# Altium footprint library SparkFun-Connectors.PCBLIB: 344 footprints (part 22 of 22)
Each footprint in its own frame and in the unit in brackets; x right, y up, seen from the top. Pads: shape width x height; smd on the part's side, far side on the other; paste and mask are expansions set on the pad; w line width, h text height; cw(c..) or ccw(c..) is an arc to the next point about the centre after c.
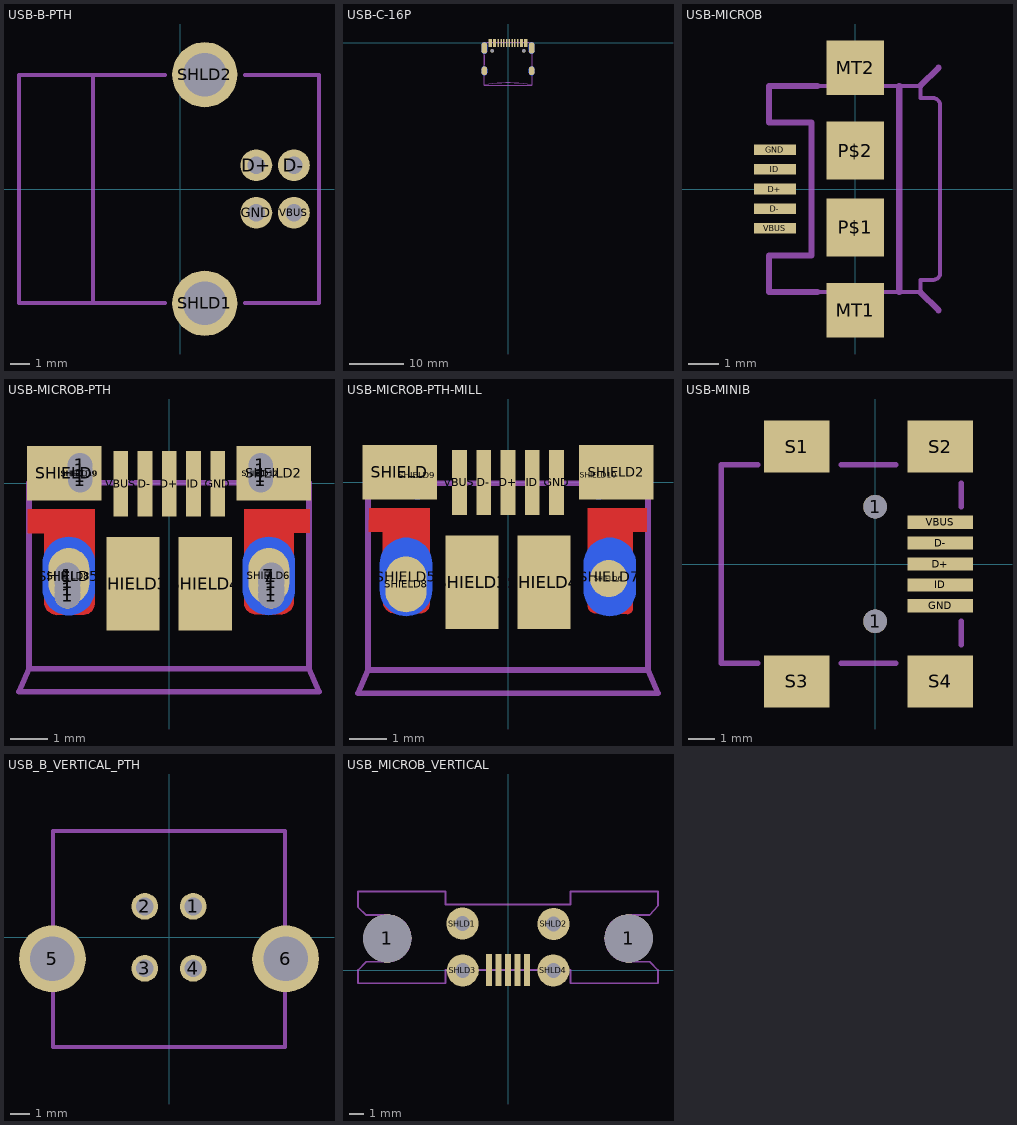
[diagram p21: the footprints below, top view; thin cyan lines are the x and y axes]

## USB-B-PTH [mil]
pads (6):
  round 66 / inner round 60 / far side round 66 hole 36: D+(157.48,49.21) D-(235.48,49.21) GND(157.48,-49.21) VBUS(235.48,-49.21)
  round 135 / inner round 60 / far side round 135 hole 90: SHLD1(50.48,-237) SHLD2(50.48,237)
Mechanical 8:
  lines w8: -334.65,-236.22 -181.1,-236.22 -181.1,236.22 -334.65,236.22 -334.65,-236.22
Mechanical 22:
  lines w8: -181.1,-236.22 -31.5,-236.22 ; -181.1,236.22 -31.5,236.22 ; 133.86,-236.22 287.4,-236.22 287.4,236.22 133.86,236.22

## USB-C-16P [mm]
pads (22):
  round 0.65 hole 0.65 unplated: 1(-2.89,-1.445) 1(2.89,-1.445)
  rect 0.3x1.45 smd: A5(-1.25,0) A6(-0.25,0) A7(0.25,0) A8(1.25,0) B5(1.75,0) B6(0.75,0) B7(-0.75,0) B8(-1.75,0)
  rect 0.6x1.45 smd: GND(-3.225,0) GND2(3.225,0)
  rrect100% 1x2.1 smd paste+0 mask+0: SHLD1(-4.32,-0.915) SHLD2(4.32,-0.915)
  rrect100% 1x2.1 smd far side paste+0 mask+0: SHLD3(-4.32,-0.915) SHLD4(4.32,-0.915)
  rrect100% 1x1.6 smd paste+0 mask+0: SHLD5(-4.32,-5.095) SHLD8(4.32,-5.095)
  rrect100% 1x1.6 smd far side paste+0 mask+0: SHLD6(-4.32,-5.095) SHLD7(4.32,-5.095)
  rect 0.55x1.45 smd: VBUS1(-2.45,0) VBUS2(2.45,0)
Mid-Layer 1:
  pour cut-out: 0,0 0.254,0 0.254,0.254 0,0.254
  pour cut-out: 0,0 0.254,0 0.254,0.254 0,0.254
  pour cut-out: 0,0 0.254,0 0.254,0.254 0,0.254
  pour cut-out: 0,0 0.254,0 0.254,0.254 0,0.254
Mid-Layer 14:
  pour cut-out: 0,0 0.254,0 0.254,0.254 0,0.254
  pour cut-out: 0,0 0.254,0 0.254,0.254 0,0.254
  pour cut-out: 0,0 0.254,0 0.254,0.254 0,0.254
  pour cut-out: 0,0 0.254,0 0.254,0.254 0,0.254
Top Paste:
  region: -4.92,-1.52 -4.92,-0.32 -4.916,-0.205 -4.819,0.004 -4.651,0.16 -4.435,0.239 -4.32,0.235 -4.205,0.239 -3.989,0.16 -3.821,0.004 -3.725,-0.205 -3.72,-0.32 -3.72,-1.52 -3.726,-1.634 -3.823,-1.84 -3.992,-1.993 -4.206,-2.07 -4.32,-2.065 -4.434,-2.07 -4.649,-1.993 -4.817,-1.84 -4.915,-1.634
  region: 3.72,-1.52 3.72,-0.32 3.725,-0.205 3.821,0.004 3.989,0.16 4.205,0.239 4.32,0.235 4.435,0.239 4.651,0.16 4.819,0.004 4.916,-0.205 4.92,-0.32 4.92,-1.52 4.915,-1.634 4.817,-1.84 4.649,-1.993 4.434,-2.07 4.32,-2.065 4.206,-2.07 3.992,-1.993 3.823,-1.84 3.726,-1.634
  region: 3.72,-5.4 3.72,-4.8 3.72,-4.68 3.81,-4.458 3.979,-4.288 4.2,-4.196 4.32,-4.195 4.44,-4.196 4.661,-4.288 4.83,-4.458 4.92,-4.68 4.92,-4.8 4.92,-5.4 4.919,-5.519 4.828,-5.738 4.659,-5.905 4.439,-5.995 4.32,-5.995 4.201,-5.995 3.981,-5.905 3.812,-5.738 3.721,-5.519
  region: -4.92,-5.4 -4.92,-4.8 -4.92,-4.68 -4.83,-4.458 -4.661,-4.288 -4.44,-4.196 -4.32,-4.195 -4.2,-4.196 -3.979,-4.288 -3.81,-4.458 -3.72,-4.68 -3.72,-4.8 -3.72,-5.4 -3.721,-5.519 -3.812,-5.738 -3.981,-5.905 -4.201,-5.995 -4.32,-5.995 -4.439,-5.995 -4.659,-5.905 -4.828,-5.738 -4.919,-5.519
Top Solder:
  region: -4.92,-1.52 -4.92,-0.32 -4.916,-0.205 -4.819,0.004 -4.651,0.16 -4.435,0.239 -4.32,0.235 -4.205,0.239 -3.989,0.16 -3.821,0.004 -3.725,-0.205 -3.72,-0.32 -3.72,-1.52 -3.726,-1.634 -3.823,-1.84 -3.992,-1.993 -4.206,-2.07 -4.32,-2.065 -4.434,-2.07 -4.649,-1.993 -4.817,-1.84 -4.915,-1.634
  region: 3.72,-1.52 3.72,-0.32 3.725,-0.205 3.821,0.004 3.989,0.16 4.205,0.239 4.32,0.235 4.435,0.239 4.651,0.16 4.819,0.004 4.916,-0.205 4.92,-0.32 4.92,-1.52 4.915,-1.634 4.817,-1.84 4.649,-1.993 4.434,-2.07 4.32,-2.065 4.206,-2.07 3.992,-1.993 3.823,-1.84 3.726,-1.634
  region: 3.72,-5.4 3.72,-4.8 3.72,-4.68 3.81,-4.458 3.979,-4.288 4.2,-4.196 4.32,-4.195 4.44,-4.196 4.661,-4.288 4.83,-4.458 4.92,-4.68 4.92,-4.8 4.92,-5.4 4.919,-5.519 4.828,-5.738 4.659,-5.905 4.439,-5.995 4.32,-5.995 4.201,-5.995 3.981,-5.905 3.812,-5.738 3.721,-5.519
  region: -4.92,-5.4 -4.92,-4.8 -4.92,-4.68 -4.83,-4.458 -4.661,-4.288 -4.44,-4.196 -4.32,-4.195 -4.2,-4.196 -3.979,-4.288 -3.81,-4.458 -3.72,-4.68 -3.72,-4.8 -3.72,-5.4 -3.721,-5.519 -3.812,-5.738 -3.981,-5.905 -4.201,-5.995 -4.32,-5.995 -4.439,-5.995 -4.659,-5.905 -4.828,-5.738 -4.919,-5.519
Mechanical 8:
  lines w0.01: -4.82,-5.395 -3.82,-5.395 ; -4.82,-5.095 -3.82,-5.095 ; -4.82,-4.795 -3.82,-4.795 ; -4.82,-1.515 -3.82,-1.515 ; -4.82,-0.915 -3.82,-0.915 ; -4.82,-0.315 -3.82,-0.315 ; -4.32,-5.895 -4.32,-4.295 ; -4.32,-1.965 -4.32,0.125 -4.32,0.135 ; 3.82,-5.395 4.82,-5.395 ; 3.82,-5.095 4.82,-5.095 ; 3.82,-4.795 4.82,-4.795 ; 3.82,-1.515 4.82,-1.515 ; 3.82,-0.915 4.82,-0.915 ; 3.82,-0.315 4.82,-0.315 ; 4.32,-5.895 4.32,-4.295 ; 4.32,-1.965 4.32,0.125 4.32,0.135
  lines w0.152: -4.32,-7.7 cw(c0,-30.692) 4.32,-7.7 ; -4.32,-7.695 4.32,-7.695 4.32,0.125 -4.32,0.125 -4.32,-7.695
Mechanical 9:
  lines w0.01: -4.62,-5.095 -4.02,-5.095 ; -4.62,-0.915 -4.02,-0.915 ; -4.32,-5.695 -4.32,-4.495 ; -4.32,-1.765 -4.32,-0.065 ; 4.02,-5.095 4.62,-5.095 ; 4.02,-0.915 4.62,-0.915 ; 4.32,-5.695 4.32,-4.495 ; 4.32,-1.765 4.32,-0.065
Mechanical 22:
  lines w0.152: -4.32,-4 -4.32,-2.2 ; 4.32,-4 4.32,-2.2
Mechanical 32:
  lines w0.01: -4.62,-5.4 -4.62,-4.78 cw(c-4.32,-4.78) -4.02,-4.78 -4.02,-5.4 cw(c-4.32,-5.4) -4.62,-5.4 ; -4.62,-1.465 -4.62,-0.365 cw(c-4.32,-0.365) -4.02,-0.365 -4.02,-1.465 cw(c-4.32,-1.465) -4.62,-1.465 ; 4.02,-5.4 4.02,-4.78 cw(c4.32,-4.78) 4.62,-4.78 4.62,-5.4 cw(c4.32,-5.4) 4.02,-5.4 ; 4.02,-1.465 4.02,-0.365 cw(c4.32,-0.365) 4.62,-0.365 4.62,-1.465 cw(c4.32,-1.465) 4.02,-1.465

## USB-MICROB [mm]
pads (9):
  rect 1.4x0.35 smd: D+(-2.65,0) D-(-2.65,-0.65) GND(-2.65,1.3) ID(-2.65,0.65) VBUS(-2.65,-1.3)
  rect 1.9x1.8 smd: MT1(0,-4) MT2(0,4)
  rect 1.9x1.9 smd: P$1(0,-1.27) P$2(0,1.27)
Mechanical 8:
  lines w0.127: 1.45,-3.4 2.15,-3.4 2.15,-3 2.55,-3 ccw(c2.565,-2.762) 2.8,-2.8 2.8,2.75 ccw(c2.563,2.765) 2.6,3 2.15,3 2.15,3.4 1.45,3.4 ; 1.45,-3.4 -2.85,-3.4 -2.85,-2.2 -1.45,-2.2 -1.45,2.2 -2.85,2.2 -2.85,3.4 1.45,3.4 ; 1.45,-3.4 1.45,3.4
  lines w0.203: 2.15,-3.4 2.75,-4 ; 2.15,3.4 2.75,4
Mechanical 22:
  lines w0.203: -1.25,-3.4 -2.85,-3.4 -2.85,-2.2 -1.45,-2.2 -1.45,2.2 -2.85,2.2 -2.85,3.4 -1.25,3.4 ; 1.45,-3.4 1.45,3.4

## USB-MICROB-PTH [mm]
pads (33):
  round 0.7 hole 0.7 unplated: 1(-2.719,-3.01) 1(-2.719,-2.845) 1(-2.718,-2.646) 1(-2.718,-2.48) 1(2.741,-3.01) 1(2.741,-2.842) 1(2.742,-2.649) 1(2.743,-2.48)
  round 0.66 hole 0.66 unplated: 1(-2.385,0.195) 1(-2.385,0.475) 1(-2.379,0.086) 1(-2.375,0.345) 1(2.455,0.195) 1(2.455,0.475) 1(2.461,0.086) 1(2.465,0.345)
  rrect100% 1.4x2.1 smd far side paste+0 mask+0: 7(2.676,-2.488) SHIELD5(-2.684,-2.49)
  rect 0.4x1.75 smd paste+0: D+(0.006,-0.015) D-(-0.644,-0.015) GND(1.306,-0.015) ID(0.656,-0.015) VBUS(-1.294,-0.015)
  rect 2x1.46 smd: SHEILD2(2.806,0.26) SHIELD(-2.806,0.26)
  rect 1.425x2.5 smd: SHIELD3(-0.966,-2.695) SHIELD4(0.971,-2.698)
  rrect100% 1.1x1.5 smd: SHIELD6(2.676,-2.488) SHIELD8(-2.684,-2.49)
  rrect100% 1x1.3 smd far side paste+0 mask+0: SHIELD9(-2.393,0.258) SHIELD12(2.456,0.252)
  rrect100% 1x1.3 smd: SHIELD10(-2.393,0.258) SHIELD11(2.462,0.248)
Top Layer:
  region: -3.781,-0.7 -3.786,-1.34 -3.349,-1.34 -3.344,-3.23 -3.333,-3.3 -3.259,-3.42 -3.146,-3.503 -3.009,-3.536 -2.939,-3.525 -2.339,-3.525 -2.276,-3.531 -2.156,-3.494 -2.059,-3.414 -2,-3.303 -1.994,-3.24 -1.989,-0.7
  region: 3.775,-0.688 3.775,-1.335 3.346,-1.335 3.346,-3.22 3.335,-3.29 3.262,-3.41 3.148,-3.493 3.011,-3.526 2.941,-3.515 2.341,-3.515 2.278,-3.517 2.161,-3.473 2.07,-3.387 2.018,-3.273 2.016,-3.21 2.016,-0.7
Top Paste:
  region: -3.396,-1.377 -3.815,-1.377 -3.815,-0.665 -1.974,-0.665 -1.974,-3.231 -1.974,-3.297 -2.024,-3.418 -2.117,-3.511 -2.238,-3.561 -2.304,-3.561 -3.066,-3.561 -3.126,-3.561 -3.238,-3.515 -3.324,-3.429 -3.371,-3.317 -3.371,-3.256 -3.371,-1.427 -3.369,-1.42 -3.37,-1.404 -3.377,-1.39 -3.389,-1.38
  region: 3.386,-1.389 3.805,-1.389 3.805,-0.665 1.989,-0.665 1.989,-3.205 1.989,-3.271 2.039,-3.393 2.132,-3.485 2.253,-3.536 2.319,-3.536 3.056,-3.536 3.116,-3.536 3.228,-3.489 3.314,-3.404 3.36,-3.292 3.36,-3.231 3.373,-1.402
  region: 0,0 0.254,0 0.254,0.254 0,0.254
  region: 0,0 0.254,0 0.254,0.254 0,0.254
  region: 0,0 0.254,0 0.254,0.254 0,0.254
  region: 0,0 0.254,0 0.254,0.254 0,0.254
  region: 0,0 0.254,0 0.254,0.254 0,0.254
Top Solder:
  region: -3.853,-0.64 -1.91,-0.64 -1.91,-3.129 -1.923,-3.231 -1.92,-3.304 -1.972,-3.441 -2.072,-3.549 -2.205,-3.609 -2.278,-3.612 -3.015,-3.612 -3.093,-3.614 -3.24,-3.559 -3.354,-3.452 -3.419,-3.309 -3.421,-3.231 -3.416,-1.464 -3.861,-1.464
  region: 1.913,-0.64 3.818,-0.64 3.818,-1.441 3.437,-1.441 3.437,-3.205 3.439,-3.284 3.384,-3.43 3.277,-3.545 3.134,-3.609 3.056,-3.612 2.294,-3.612 2.22,-3.614 2.083,-3.563 1.976,-3.463 1.915,-3.33 1.913,-3.256
Mechanical 8:
  lines w0.152: -3.75,-4.974 3.75,-4.974 ; -3.75,-4.974 -3.75,0.013 3.75,0.013 3.75,-4.974 ; -3.75,-4.974 -4.02,-5.594 4.02,-5.594 3.75,-4.974

## USB-MICROB-PTH-MILL [mm]
pads (15):
  rect 0.4x1.75 smd paste+0: D+(0,0) D-(-0.65,0) GND(1.3,0) ID(0.65,0) VBUS(-1.3,0)
  rect 2x1.46 smd: SHIELD(-2.9,0.275) SHIELD2(2.9,0.275)
  rect 1.425x2.5 smd: SHIELD3(-0.962,-2.675) SHIELD4(0.962,-2.675)
  rrect100% 1.4x2.1 smd far side paste+0 mask+0: SHIELD5(-2.732,-2.531) SHIELD7(2.728,-2.531)
  rrect100% 1x1 smd paste+0 mask+0: SHIELD6(2.7,-2.575)
  rrect100% 1.1x1.5 smd paste+0 mask+0: SHIELD8(-2.732,-2.731)
  rrect100% 1x1.3 smd far side paste+0 mask+0: SHIELD9(-2.43,0.195) SHIELD10(2.43,0.195)
Top Layer:
  region: -3.725,-0.685 -3.73,-1.325 -3.355,-1.325 -3.35,-3.215 -3.339,-3.285 -3.266,-3.405 -3.152,-3.488 -3.015,-3.521 -2.945,-3.51 -2.345,-3.51 -2.292,-3.506 -2.198,-3.458 -2.129,-3.378 -2.096,-3.278 -2.1,-3.225 -2.095,-0.685
  region: 3.718,-0.685 3.718,-1.32 3.34,-1.32 3.34,-3.405 3.338,-3.431 3.315,-3.477 3.275,-3.511 3.226,-3.527 3.2,-3.525 2.335,-3.5 2.295,-3.499 2.221,-3.467 2.166,-3.41 2.136,-3.335 2.137,-3.295 2.137,-0.685
Mid-Layer 1:
  pour cut-out: 0,0 0.254,0 0.254,0.254 0,0.254
  pour cut-out: 0,0 0.254,0 0.254,0.254 0,0.254
  pour cut-out: 0,0 0.254,0 0.254,0.254 0,0.254
  pour cut-out: 0,0 0.254,0 0.254,0.254 0,0.254
Mid-Layer 14:
  pour cut-out: 0,0 0.254,0 0.254,0.254 0,0.254
  pour cut-out: 0,0 0.254,0 0.254,0.254 0,0.254
  pour cut-out: 0,0 0.254,0 0.254,0.254 0,0.254
  pour cut-out: 0,0 0.254,0 0.254,0.254 0,0.254
Top Paste:
  region: 3.38,-1.438 3.862,-1.438 3.862,-0.65 1.983,-0.65 1.983,-3.19 1.983,-3.256 2.033,-3.377 2.126,-3.47 2.247,-3.52 2.313,-3.52 3.05,-3.52 3.11,-3.52 3.222,-3.474 3.308,-3.388 3.354,-3.276 3.354,-3.216 3.354,-1.463 3.355,-1.458 3.359,-1.449 3.366,-1.442 3.375,-1.438
  region: 0,0 0.254,0 0.254,0.254 0,0.254
  region: 0,0 0.254,0 0.254,0.254 0,0.254
  region: 0,0 0.254,0 0.254,0.254 0,0.254
  region: 0,0 0.254,0 0.254,0.254 0,0.254
  region: 0,0 0.254,0 0.254,0.254 0,0.254
  region: -3.393,-1.438 -3.875,-1.438 -3.875,-0.65 -1.996,-0.65 -1.996,-3.19 -1.996,-3.256 -2.046,-3.377 -2.139,-3.47 -2.26,-3.52 -2.326,-3.52 -3.062,-3.52 -3.123,-3.52 -3.235,-3.474 -3.321,-3.388 -3.367,-3.276 -3.367,-3.216 -3.367,-1.463 -3.368,-1.458 -3.372,-1.449 -3.379,-1.442 -3.388,-1.438
Top Solder:
  region: -3.8,-0.625 -2,-0.625 -2,-3.225 -1.99,-3.295 -2.025,-3.431 -2.109,-3.543 -2.23,-3.615 -2.3,-3.625 -3,-3.625 -3.08,-3.625 -3.227,-3.564 -3.339,-3.452 -3.4,-3.305 -3.4,-3.225 -3.4,-1.425 -3.8,-1.425
  region: 2,-0.625 3.8,-0.625 3.8,-1.425 3.5,-1.425 3.5,-3.325 3.49,-3.395 3.418,-3.516 3.306,-3.6 3.17,-3.635 3.1,-3.625 2.3,-3.625 2.24,-3.625 2.13,-3.579 2.046,-3.495 2,-3.385 2,-3.325
Mechanical 8:
  lines w0.152: -3.75,-5.025 3.75,-5.025 ; -3.75,-5.025 -3.75,-0.025 3.75,-0.025 3.75,-5.025 ; -3.75,-5.025 -4.02,-5.645 4.02,-5.645 3.75,-5.025
Mechanical 32:
  lines w0.02: -3.08,-3.125 ccw(c-2.741,-3.084) -2.73,-3.425 ccw(c-2.719,-3.084) -2.38,-3.125 -2.38,-2.525 ccw(c-2.719,-2.566) -2.73,-2.225 ccw(c-2.741,-2.566) -3.08,-2.525 -3.08,-3.125 ; -2.755,0.005 ccw(c-2.416,0.02) -2.42,-0.32 ccw(c-2.404,-0.021) -2.105,0.005 -2.105,0.405 ccw(c-2.43,0.405) -2.43,0.73 ccw(c-2.435,0.41) -2.755,0.405 -2.755,0.005 ; 2.105,0.005 ccw(c2.444,0.02) 2.44,-0.32 ccw(c2.456,-0.021) 2.755,0.005 2.755,0.405 ccw(c2.43,0.405) 2.43,0.73 ccw(c2.425,0.41) 2.105,0.405 2.105,0.005 ; 2.38,-3.125 ccw(c2.719,-3.084) 2.73,-3.425 ccw(c2.741,-3.084) 3.08,-3.125 3.08,-2.525 ccw(c2.741,-2.566) 2.73,-2.225 ccw(c2.719,-2.566) 2.38,-2.525 2.38,-3.125

## USB-MINIB [mm]
pads (11):
  round 0.9 hole 0.9 unplated: 1(0,-2.2) 1(0,2.2)
  rect 2.5x0.5 smd: D+(2.5,0) D-(2.5,0.8) GND(2.5,-1.6) ID(2.5,-0.8) VBUS(2.5,1.6)
  rect 2.5x2 smd: S1(-3,4.5) S2(2.5,4.5) S3(-3,-4.5) S4(2.5,-4.5)
Mechanical 8:
  lines w0.203: -4.5,-3.8 -5.9,-3.8 -5.9,3.8 -4.5,3.8
Mechanical 22:
  lines w0.203: -1.3,-3.8 0.8,-3.8 ; -1.3,3.8 0.8,3.8 ; 3.3,-3.1 3.3,-2.2 ; 3.3,2.2 3.3,3.1

## USB_B_VERTICAL_PTH [mm]
pads (6):
  round 1.38 / inner round 1.524 / far side round 1.38 hole 0.92: 1(1.25,1.6) 2(-1.25,1.6) 3(-1.25,-1.6) 4(1.25,-1.6)
  round 3.45 / inner round 1.524 / far side round 3.45 hole 2.3: 5(-6.02,-1.11) 6(6.02,-1.11)
Mechanical 22:
  lines w0.203: -6,-5.66 6,-5.66 6,5.49 -6,5.49 -6,-5.66

## USB_MICROB_VERTICAL [mil]
pads (11):
  round 129.92 hole 129.92 unplated: 1(-325.79,85.43) 1(325.79,85.43)
  rect 15.75x86.61 smd: D+(0,0) D-(-25.59,0) GND(51.18,0) ID(25.59,0) VBUS(-51.18,0)
  round 86.61 / inner round 60 / far side round 86.61 hole 40: SHLD1(-122.86,125.32) SHLD2(122.91,124.42) SHLD3(-121.97,-1.06) SHLD4(122.36,-1.01)
Mechanical 8:
  lines w5: -404.53,-35.43 -404.53,0 -381.89,22.44 -325.79,22.44 ccw(c-325.79,85.44) -325.79,148.43 -381.89,148.43 -404.53,169.29 -404.53,211.81 -168.31,211.81 -168.31,176.38 168.31,176.38 168.31,211.81 404.53,211.81 404.53,173.23 381.89,148.43 325.79,148.43 ccw(c325.79,85.44) 325.79,22.44 381.89,22.44 404.53,0 404.53,-35.43 168.31,-35.43 168.31,0 -168.31,0 -168.31,-35.43 -404.53,-35.43